# Altium footprint library link-connector.PcbLib: 1 footprints
Each footprint in its own frame and in the unit in brackets; x right, y up, seen from the top. Pads: shape width x height; smd on the part's side, far side on the other; paste and mask are expansions set on the pad; w line width, h text height; cw(c..) or ccw(c..) is an arc to the next point about the centre after c.
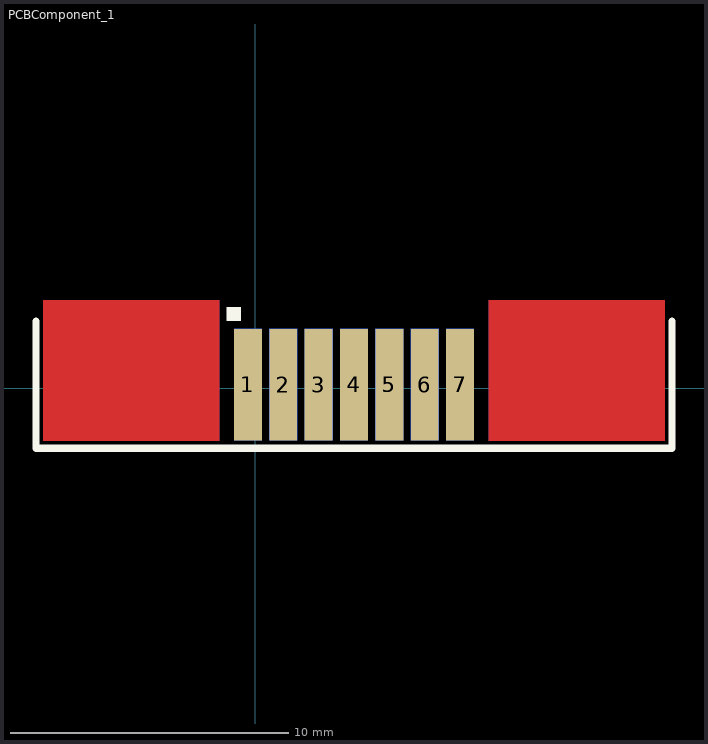
[diagram p0: the footprint, top view; thin cyan lines are the x and y axes]

## PCBComponent_1 [mm]
pads (14):
  rect 1x4 smd: 1(-0.254,0.127) 2(1.016,0.127) 3(2.286,0.127) 4(3.556,0.127) 5(4.826,0.127) 6(6.096,0.127) 7(7.366,0.127)
  rect 1x4 smd far side: 1(-0.254,0.127) 2(1.016,0.127) 3(2.286,0.127) 4(3.556,0.127) 5(4.826,0.127) 6(6.096,0.127) 7(7.366,0.127)
Top Layer:
  rectangle: 8.382,-1.905 14.732,3.175
  rectangle: -7.62,-1.905 -1.27,3.175
Bottom Layer:
  rectangle: 8.382,-1.905 14.732,3.175
  rectangle: -7.62,-1.905 -1.27,3.175
Top Overlay:
  rectangle: -1.016,2.413 -0.508,2.921
  lines w0.254: -7.874,2.413 -7.874,-2.159 14.986,-2.159 14.986,2.413
Top Solder:
  rectangle: -7.62,-1.905 -1.27,3.175
  rectangle: 8.382,-1.905 14.732,3.175
Bottom Solder:
  rectangle: -7.62,-1.905 -1.27,3.175
  rectangle: 8.382,-1.905 14.732,3.175